# Altium schematic symbol library 74xx-eu.SCHLIB: 627 symbols (part 4 of 4)
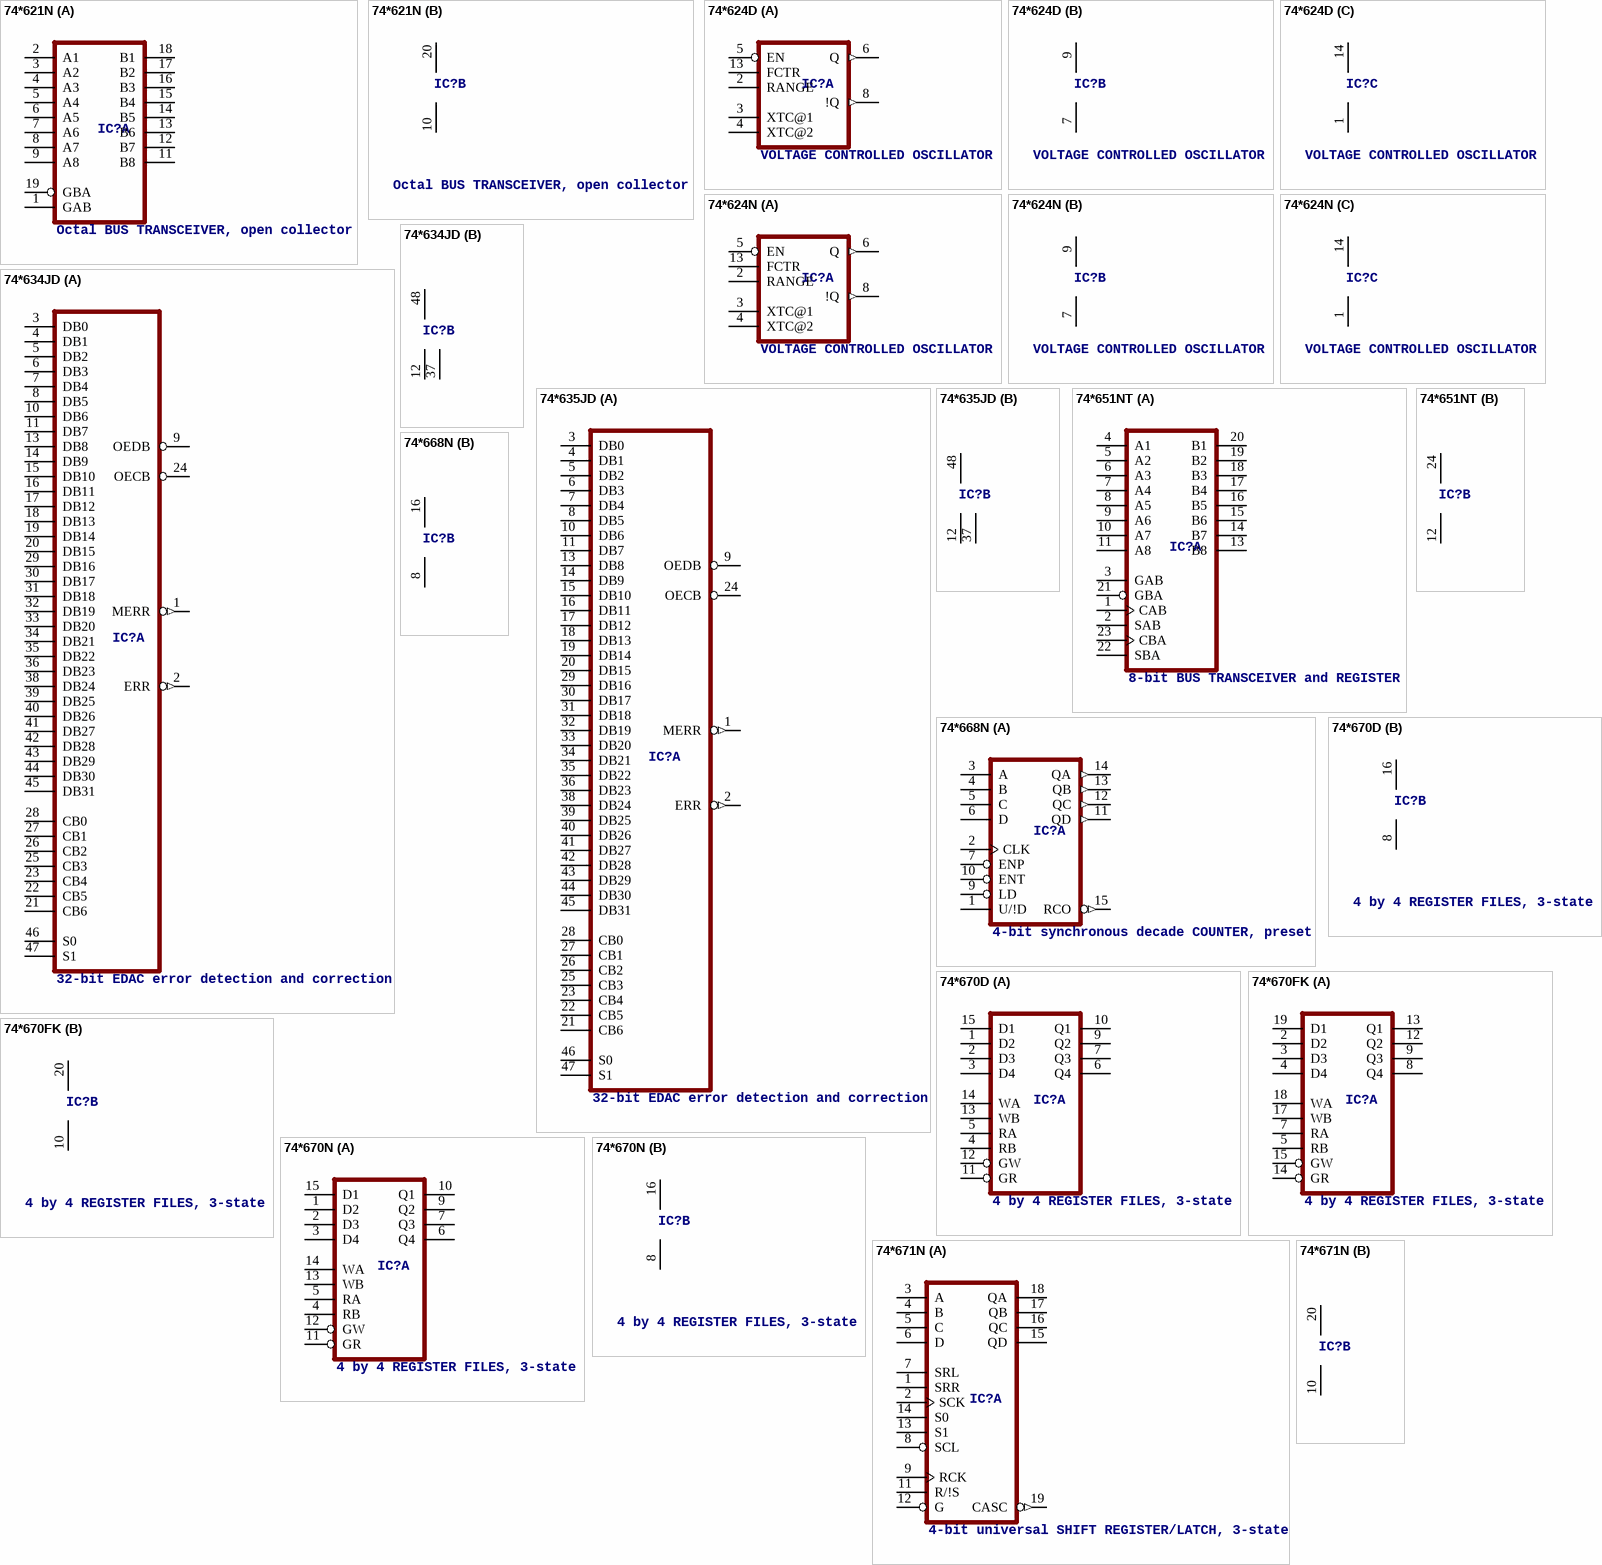
[diagram p58: symbols 74*621N to 74*671N]

## 74*668N
designator IC?, comment 4-bit synchronous decade COUNTER, preset
footprint DIL16
part A pins: 1 U/!D, 2 CLK, 3 A, 4 B, 5 C, 6 D, 7 ENP, 9 LD, 10 ENT, 11 QD (out), 12 QC (out), 13 QB (out), 14 QA (out), 15 RCO (out)
part B pins: 8 GND (power), 16 VCC (power)

## 74*670D
designator IC?, comment 4 by 4 REGISTER FILES, 3-state
footprint SO16
part A pins: 1 D2, 2 D3, 3 D4, 4 RB, 5 RA, 6 Q4 (hiz), 7 Q3 (hiz), 9 Q2 (hiz), 10 Q1 (hiz), 11 GR, 12 GW, 13 WB, 14 WA, 15 D1
part B pins: 8 GND (power), 16 VCC (power)

## 74*670FK
designator IC?, comment 4 by 4 REGISTER FILES, 3-state
footprint LCC20
part A pins: 2 D2, 3 D3, 4 D4, 5 RB, 7 RA, 8 Q4 (hiz), 9 Q3 (hiz), 12 Q2 (hiz), 13 Q1 (hiz), 14 GR, 15 GW, 17 WB, 18 WA, 19 D1
part B pins: 10 GND (power), 20 VCC (power)

## 74*670N
designator IC?, comment 4 by 4 REGISTER FILES, 3-state
footprint DIL16
part A pins: 1 D2, 2 D3, 3 D4, 4 RB, 5 RA, 6 Q4 (hiz), 7 Q3 (hiz), 9 Q2 (hiz), 10 Q1 (hiz), 11 GR, 12 GW, 13 WB, 14 WA, 15 D1
part B pins: 8 GND (power), 16 VCC (power)

## 74*671N
designator IC?, comment 4-bit universal SHIFT REGISTER/LATCH, 3-state
footprint DIL20
part A pins: 1 SRR, 2 SCK, 3 A, 4 B, 5 C, 6 D, 7 SRL, 8 SCL, 9 RCK, 11 R/!S, 12 G, 13 S1, 14 S0, 15 QD (hiz), 16 QC (hiz), 17 QB (hiz), 18 QA (hiz), 19 CASC (out)
part B pins: 10 GND (power), 20 VCC (power)

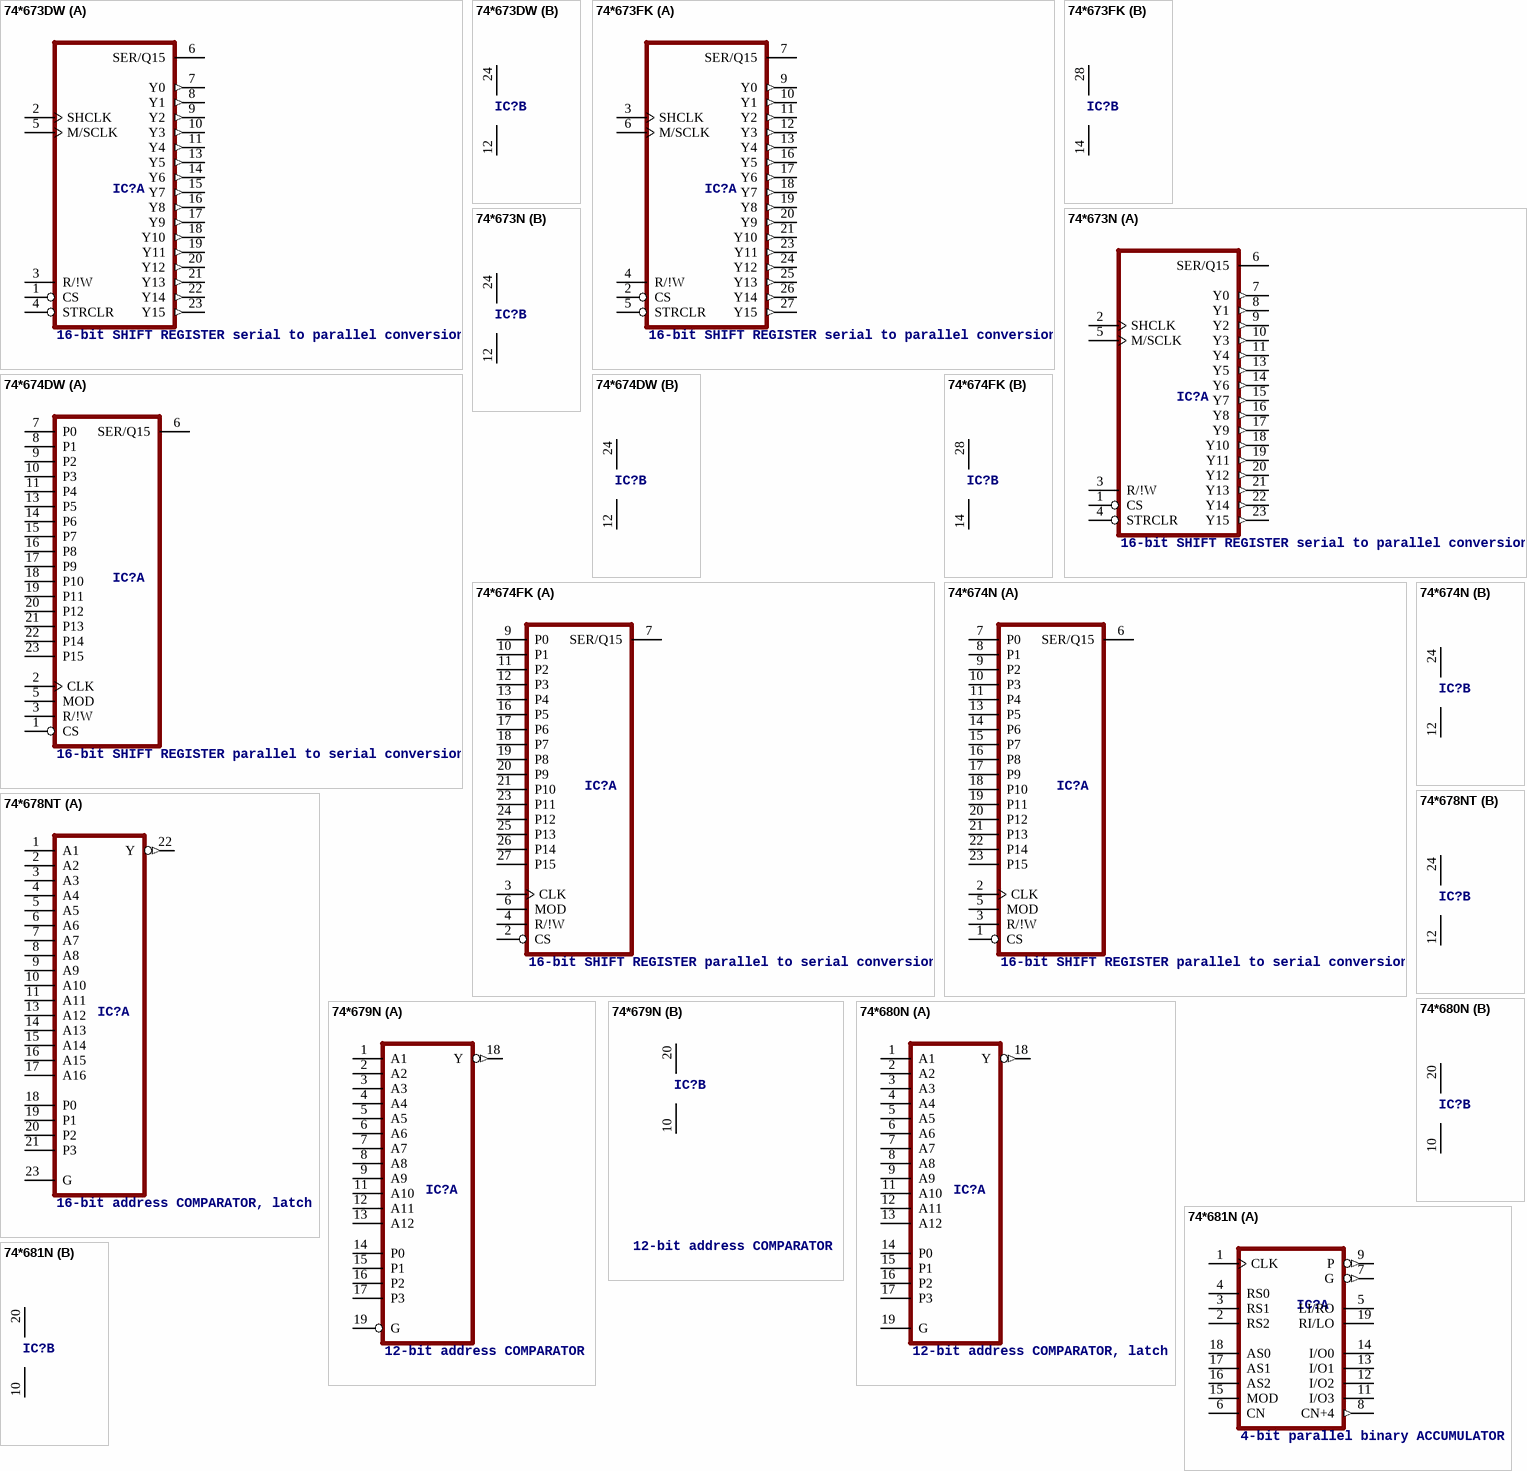
[diagram p48: symbols 74*673DW to 74*681N]

## 74*673DW
designator IC?, comment 16-bit SHIFT REGISTER serial to parallel conversion
footprint SO24W
part A pins: 1 CS, 2 SHCLK, 3 R/!W, 4 STRCLR, 5 M/SCLK, 6 SER/Q15, 7 Y0 (out), 8 Y1 (out), 9 Y2 (out), 10 Y3 (out), 11 Y4 (out), 13 Y5 (out), 14 Y6 (out), 15 Y7 (out), 16 Y8 (out), 17 Y9 (out), 18 Y10 (out), 19 Y11 (out), 20 Y12 (out), 21 Y13 (out), 22 Y14 (out), 23 Y15 (out)
part B pins: 12 GND (power), 24 VCC (power)

## 74*673FK
designator IC?, comment 16-bit SHIFT REGISTER serial to parallel conversion
footprint LCC28
part A pins: 2 CS, 3 SHCLK, 4 R/!W, 5 STRCLR, 6 M/SCLK, 7 SER/Q15, 9 Y0 (out), 10 Y1 (out), 11 Y2 (out), 12 Y3 (out), 13 Y4 (out), 16 Y5 (out), 17 Y6 (out), 18 Y7 (out), 19 Y8 (out), 20 Y9 (out), 21 Y10 (out), 23 Y11 (out), 24 Y12 (out), 25 Y13 (out), 26 Y14 (out), 27 Y15 (out)
part B pins: 14 GND (power), 28 VCC (power)

## 74*673N
designator IC?, comment 16-bit SHIFT REGISTER serial to parallel conversion
footprint DIL24-6
part A pins: 1 CS, 2 SHCLK, 3 R/!W, 4 STRCLR, 5 M/SCLK, 6 SER/Q15, 7 Y0 (out), 8 Y1 (out), 9 Y2 (out), 10 Y3 (out), 11 Y4 (out), 13 Y5 (out), 14 Y6 (out), 15 Y7 (out), 16 Y8 (out), 17 Y9 (out), 18 Y10 (out), 19 Y11 (out), 20 Y12 (out), 21 Y13 (out), 22 Y14 (out), 23 Y15 (out)
part B pins: 12 GND (power), 24 VCC (power)

## 74*674DW
designator IC?, comment 16-bit SHIFT REGISTER parallel to serial conversion
footprint SO24W
part A pins: 1 CS, 2 CLK, 3 R/!W, 5 MOD, 6 SER/Q15, 7 P0, 8 P1, 9 P2, 10 P3, 11 P4, 13 P5, 14 P6, 15 P7, 16 P8, 17 P9, 18 P10, 19 P11, 20 P12, 21 P13, 22 P14, 23 P15
part B pins: 12 GND (power), 24 VCC (power)

## 74*674FK
designator IC?, comment 16-bit SHIFT REGISTER parallel to serial conversion
footprint LCC28
part A pins: 2 CS, 3 CLK, 4 R/!W, 6 MOD, 7 SER/Q15, 9 P0, 10 P1, 11 P2, 12 P3, 13 P4, 16 P5, 17 P6, 18 P7, 19 P8, 20 P9, 21 P10, 23 P11, 24 P12, 25 P13, 26 P14, 27 P15
part B pins: 14 GND (power), 28 VCC (power)

## 74*674N
designator IC?, comment 16-bit SHIFT REGISTER parallel to serial conversion
footprint DIL24-6
part A pins: 1 CS, 2 CLK, 3 R/!W, 5 MOD, 6 SER/Q15, 7 P0, 8 P1, 9 P2, 10 P3, 11 P4, 13 P5, 14 P6, 15 P7, 16 P8, 17 P9, 18 P10, 19 P11, 20 P12, 21 P13, 22 P14, 23 P15
part B pins: 12 GND (power), 24 VCC (power)

## 74*678NT
designator IC?, comment 16-bit address COMPARATOR, latch
footprint DIL24-6
part A pins: 1 A1, 2 A2, 3 A3, 4 A4, 5 A5, 6 A6, 7 A7, 8 A8, 9 A9, 10 A10, 11 A11, 13 A12, 14 A13, 15 A14, 16 A15, 17 A16, 18 P0, 19 P1, 20 P2, 21 P3, 22 Y (out), 23 G
part B pins: 12 GND (power), 24 VCC (power)

## 74*679N
designator IC?, comment 12-bit address COMPARATOR
footprint DIL20
part A pins: 1 A1, 2 A2, 3 A3, 4 A4, 5 A5, 6 A6, 7 A7, 8 A8, 9 A9, 11 A10, 12 A11, 13 A12, 14 P0, 15 P1, 16 P2, 17 P3, 18 Y (out), 19 G
part B pins: 10 GND (power), 20 VCC (power)

## 74*680N
designator IC?, comment 12-bit address COMPARATOR, latch
footprint DIL20
part A pins: 1 A1, 2 A2, 3 A3, 4 A4, 5 A5, 6 A6, 7 A7, 8 A8, 9 A9, 11 A10, 12 A11, 13 A12, 14 P0, 15 P1, 16 P2, 17 P3, 18 Y (out), 19 G
part B pins: 10 GND (power), 20 VCC (power)

## 74*681N
designator IC?, comment 4-bit parallel binary ACCUMULATOR
footprint DIL20
part A pins: 1 CLK, 2 RS2, 3 RS1, 4 RS0, 5 LI/RO, 6 CN, 7 G (out), 8 CN+4 (out), 9 P (out), 11 I/O3, 12 I/O2, 13 I/O1, 14 I/O0, 15 MOD, 16 AS2, 17 AS1, 18 AS0, 19 RI/LO
part B pins: 10 GND (power), 20 VCC (power)

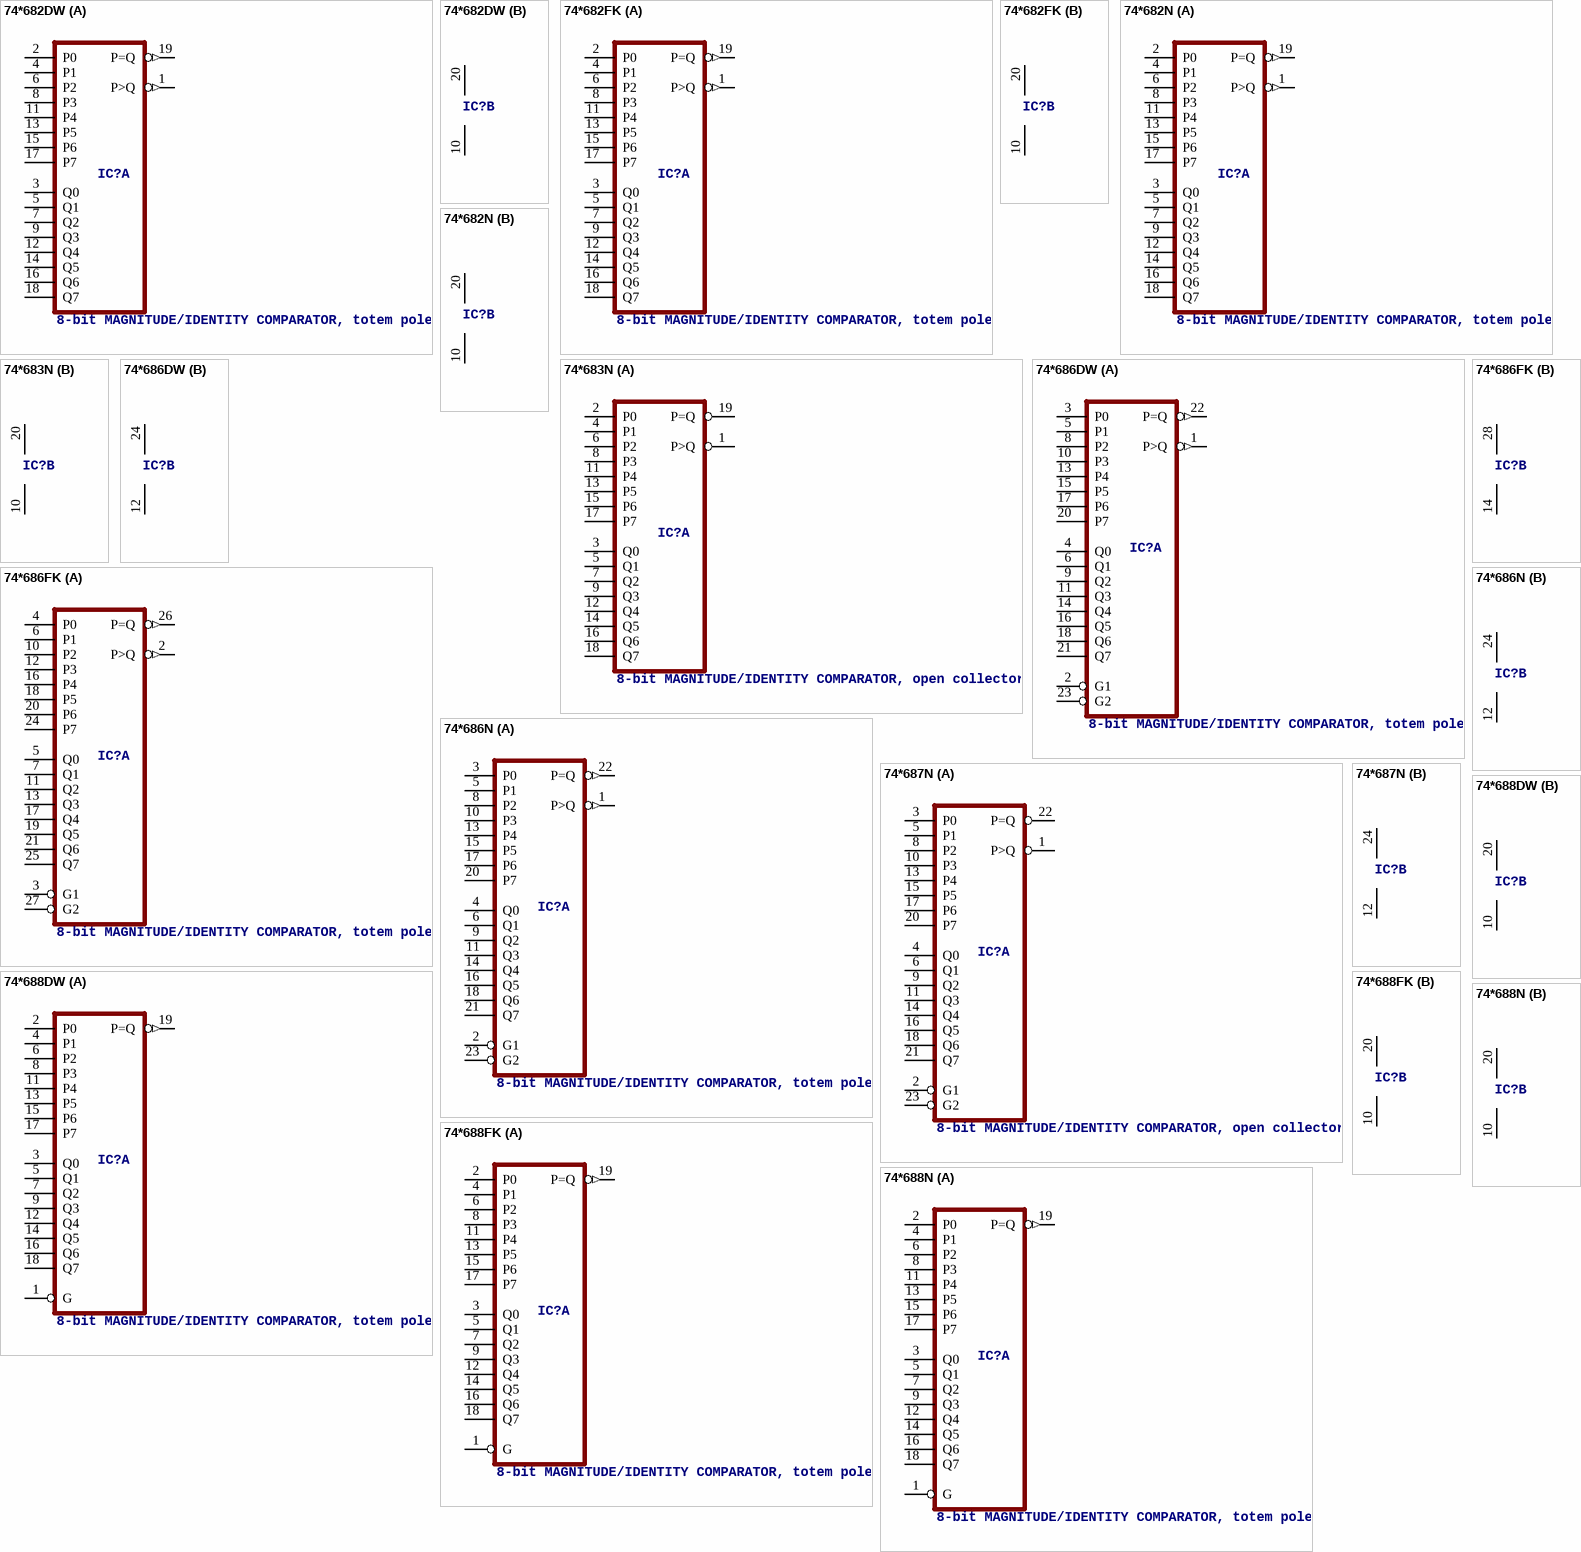
[diagram p49: symbols 74*682DW to 74*688N]

## 74*682DW
designator IC?, comment 8-bit MAGNITUDE/IDENTITY COMPARATOR, totem pole
footprint SO20W
part A pins: 1 P>Q (out), 2 P0, 3 Q0, 4 P1, 5 Q1, 6 P2, 7 Q2, 8 P3, 9 Q3, 11 P4, 12 Q4, 13 P5, 14 Q5, 15 P6, 16 Q6, 17 P7, 18 Q7, 19 P=Q (out)
part B pins: 10 GND (power), 20 VCC (power)

## 74*682FK
designator IC?, comment 8-bit MAGNITUDE/IDENTITY COMPARATOR, totem pole
footprint LCC20
part A pins: 1 P>Q (out), 2 P0, 3 Q0, 4 P1, 5 Q1, 6 P2, 7 Q2, 8 P3, 9 Q3, 11 P4, 12 Q4, 13 P5, 14 Q5, 15 P6, 16 Q6, 17 P7, 18 Q7, 19 P=Q (out)
part B pins: 10 GND (power), 20 VCC (power)

## 74*682N
designator IC?, comment 8-bit MAGNITUDE/IDENTITY COMPARATOR, totem pole
footprint DIL20
part A pins: 1 P>Q (out), 2 P0, 3 Q0, 4 P1, 5 Q1, 6 P2, 7 Q2, 8 P3, 9 Q3, 11 P4, 12 Q4, 13 P5, 14 Q5, 15 P6, 16 Q6, 17 P7, 18 Q7, 19 P=Q (out)
part B pins: 10 GND (power), 20 VCC (power)

## 74*683N
designator IC?, comment 8-bit MAGNITUDE/IDENTITY COMPARATOR, open collector
footprint DIL20
part A pins: 1 P>Q (oc), 2 P0, 3 Q0, 4 P1, 5 Q1, 6 P2, 7 Q2, 8 P3, 9 Q3, 11 P4, 12 Q4, 13 P5, 14 Q5, 15 P6, 16 Q6, 17 P7, 18 Q7, 19 P=Q (oc)
part B pins: 10 GND (power), 20 VCC (power)

## 74*686DW
designator IC?, comment 8-bit MAGNITUDE/IDENTITY COMPARATOR, totem pole
footprint SO24W
part A pins: 1 P>Q (out), 2 G1, 3 P0, 4 Q0, 5 P1, 6 Q1, 8 P2, 9 Q2, 10 P3, 11 Q3, 13 P4, 14 Q4, 15 P5, 16 Q5, 17 P6, 18 Q6, 20 P7, 21 Q7, 22 P=Q (out), 23 G2
part B pins: 12 GND (power), 24 VCC (power)

## 74*686FK
designator IC?, comment 8-bit MAGNITUDE/IDENTITY COMPARATOR, totem pole
footprint LCC28
part A pins: 2 P>Q (out), 3 G1, 4 P0, 5 Q0, 6 P1, 7 Q1, 10 P2, 11 Q2, 12 P3, 13 Q3, 16 P4, 17 Q4, 18 P5, 19 Q5, 20 P6, 21 Q6, 24 P7, 25 Q7, 26 P=Q (out), 27 G2
part B pins: 14 GND (power), 28 VCC (power)

## 74*686N
designator IC?, comment 8-bit MAGNITUDE/IDENTITY COMPARATOR, totem pole
footprint DIL24-6
part A pins: 1 P>Q (out), 2 G1, 3 P0, 4 Q0, 5 P1, 6 Q1, 8 P2, 9 Q2, 10 P3, 11 Q3, 13 P4, 14 Q4, 15 P5, 16 Q5, 17 P6, 18 Q6, 20 P7, 21 Q7, 22 P=Q (out), 23 G2
part B pins: 12 GND (power), 24 VCC (power)

## 74*687N
designator IC?, comment 8-bit MAGNITUDE/IDENTITY COMPARATOR, open collector
footprint DIL24-6
part A pins: 1 P>Q (oc), 2 G1, 3 P0, 4 Q0, 5 P1, 6 Q1, 8 P2, 9 Q2, 10 P3, 11 Q3, 13 P4, 14 Q4, 15 P5, 16 Q5, 17 P6, 18 Q6, 20 P7, 21 Q7, 22 P=Q (oc), 23 G2
part B pins: 12 GND (power), 24 VCC (power)

## 74*688DW
designator IC?, comment 8-bit MAGNITUDE/IDENTITY COMPARATOR, totem pole
footprint SO20W
part A pins: 1 G, 2 P0, 3 Q0, 4 P1, 5 Q1, 6 P2, 7 Q2, 8 P3, 9 Q3, 11 P4, 12 Q4, 13 P5, 14 Q5, 15 P6, 16 Q6, 17 P7, 18 Q7, 19 P=Q (out)
part B pins: 10 GND (power), 20 VCC (power)

## 74*688FK
designator IC?, comment 8-bit MAGNITUDE/IDENTITY COMPARATOR, totem pole
footprint LCC20
part A pins: 1 G, 2 P0, 3 Q0, 4 P1, 5 Q1, 6 P2, 7 Q2, 8 P3, 9 Q3, 11 P4, 12 Q4, 13 P5, 14 Q5, 15 P6, 16 Q6, 17 P7, 18 Q7, 19 P=Q (out)
part B pins: 10 GND (power), 20 VCC (power)

## 74*688N
designator IC?, comment 8-bit MAGNITUDE/IDENTITY COMPARATOR, totem pole
footprint DIL20
part A pins: 1 G, 2 P0, 3 Q0, 4 P1, 5 Q1, 6 P2, 7 Q2, 8 P3, 9 Q3, 11 P4, 12 Q4, 13 P5, 14 Q5, 15 P6, 16 Q6, 17 P7, 18 Q7, 19 P=Q (out)
part B pins: 10 GND (power), 20 VCC (power)

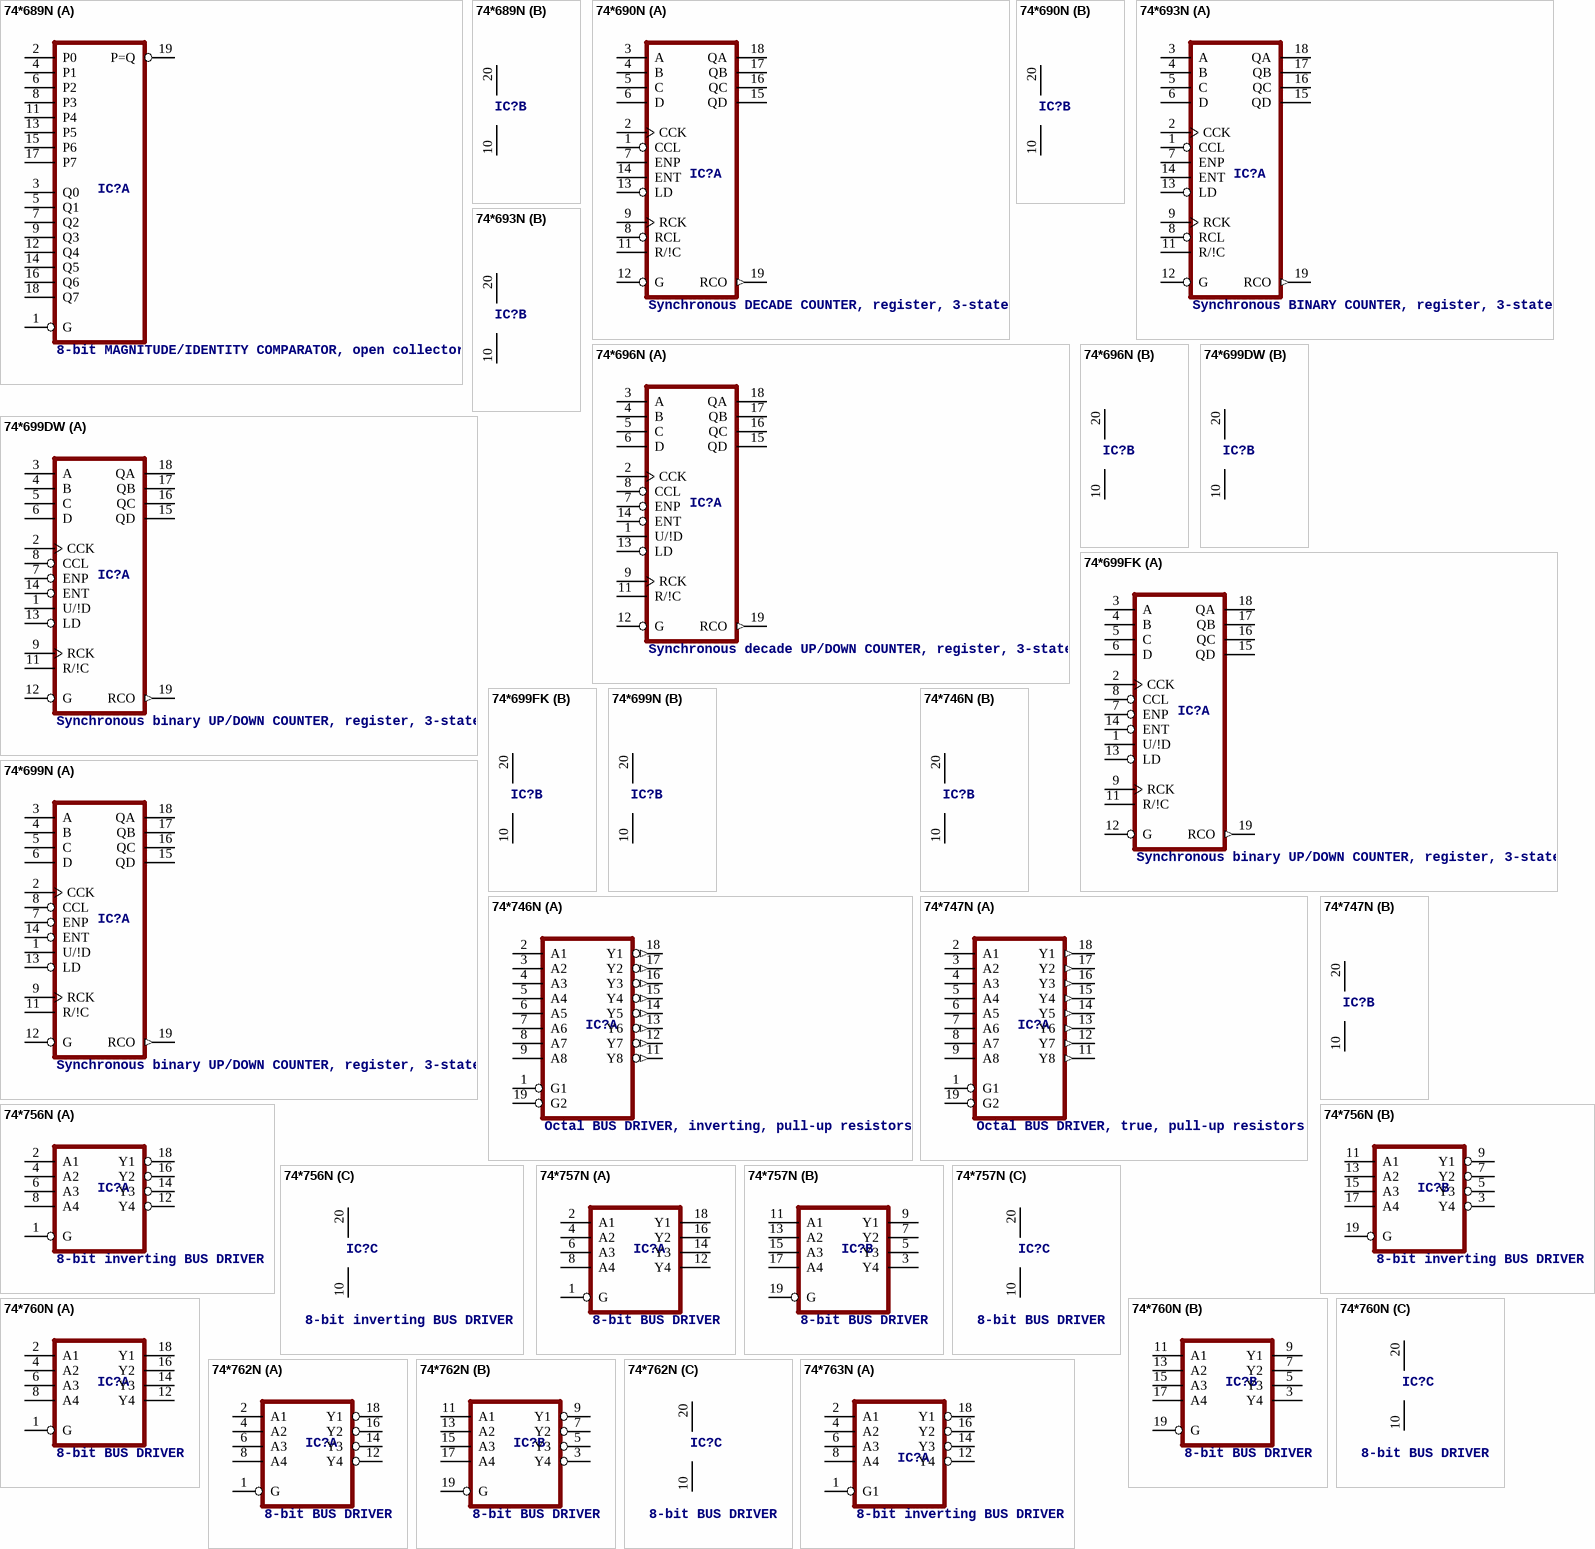
[diagram p50: symbols 74*689N to 74*763N]

## 74*689N
designator IC?, comment 8-bit MAGNITUDE/IDENTITY COMPARATOR, open collector
footprint DIL20
part A pins: 1 G, 2 P0, 3 Q0, 4 P1, 5 Q1, 6 P2, 7 Q2, 8 P3, 9 Q3, 11 P4, 12 Q4, 13 P5, 14 Q5, 15 P6, 16 Q6, 17 P7, 18 Q7, 19 P=Q (oc)
part B pins: 10 GND (power), 20 VCC (power)

## 74*690N
designator IC?, comment Synchronous DECADE COUNTER, register, 3-state
footprint DIL20
part A pins: 1 CCL, 2 CCK, 3 A, 4 B, 5 C, 6 D, 7 ENP, 8 RCL, 9 RCK, 11 R/!C, 12 G, 13 LD, 14 ENT, 15 QD (hiz), 16 QC (hiz), 17 QB (hiz), 18 QA (hiz), 19 RCO (out)
part B pins: 10 GND (power), 20 VCC (power)

## 74*693N
designator IC?, comment Synchronous BINARY COUNTER, register, 3-state
footprint DIL20
part A pins: 1 CCL, 2 CCK, 3 A, 4 B, 5 C, 6 D, 7 ENP, 8 RCL, 9 RCK, 11 R/!C, 12 G, 13 LD, 14 ENT, 15 QD (hiz), 16 QC (hiz), 17 QB (hiz), 18 QA (hiz), 19 RCO (out)
part B pins: 10 GND (power), 20 VCC (power)

## 74*696N
designator IC?, comment Synchronous decade UP/DOWN COUNTER, register, 3-state
footprint DIL20
part A pins: 1 U/!D, 2 CCK, 3 A, 4 B, 5 C, 6 D, 7 ENP, 8 CCL, 9 RCK, 11 R/!C, 12 G, 13 LD, 14 ENT, 15 QD (hiz), 16 QC (hiz), 17 QB (hiz), 18 QA (hiz), 19 RCO (out)
part B pins: 10 GND (power), 20 VCC (power)

## 74*699DW
designator IC?, comment Synchronous binary UP/DOWN COUNTER, register, 3-state
footprint SO20W
part A pins: 1 U/!D, 2 CCK, 3 A, 4 B, 5 C, 6 D, 7 ENP, 8 CCL, 9 RCK, 11 R/!C, 12 G, 13 LD, 14 ENT, 15 QD (hiz), 16 QC (hiz), 17 QB (hiz), 18 QA (hiz), 19 RCO (out)
part B pins: 10 GND (power), 20 VCC (power)

## 74*699FK
designator IC?, comment Synchronous binary UP/DOWN COUNTER, register, 3-state
footprint LCC20
part A pins: 1 U/!D, 2 CCK, 3 A, 4 B, 5 C, 6 D, 7 ENP, 8 CCL, 9 RCK, 11 R/!C, 12 G, 13 LD, 14 ENT, 15 QD (hiz), 16 QC (hiz), 17 QB (hiz), 18 QA (hiz), 19 RCO (out)
part B pins: 10 GND (power), 20 VCC (power)

## 74*699N
designator IC?, comment Synchronous binary UP/DOWN COUNTER, register, 3-state
footprint DIL20
part A pins: 1 U/!D, 2 CCK, 3 A, 4 B, 5 C, 6 D, 7 ENP, 8 CCL, 9 RCK, 11 R/!C, 12 G, 13 LD, 14 ENT, 15 QD (hiz), 16 QC (hiz), 17 QB (hiz), 18 QA (hiz), 19 RCO (out)
part B pins: 10 GND (power), 20 VCC (power)

## 74*746N
designator IC?, comment Octal BUS DRIVER, inverting, pull-up resistors
footprint DIL20
part A pins: 1 G1, 2 A1, 3 A2, 4 A3, 5 A4, 6 A5, 7 A6, 8 A7, 9 A8, 11 Y8 (out), 12 Y7 (out), 13 Y6 (out), 14 Y5 (out), 15 Y4 (out), 16 Y3 (out), 17 Y2 (out), 18 Y1 (out), 19 G2
part B pins: 10 GND (power), 20 VCC (power)

## 74*747N
designator IC?, comment Octal BUS DRIVER, true, pull-up resistors
footprint DIL20
part A pins: 1 G1, 2 A1, 3 A2, 4 A3, 5 A4, 6 A5, 7 A6, 8 A7, 9 A8, 11 Y8 (out), 12 Y7 (out), 13 Y6 (out), 14 Y5 (out), 15 Y4 (out), 16 Y3 (out), 17 Y2 (out), 18 Y1 (out), 19 G2
part B pins: 10 GND (power), 20 VCC (power)

## 74*756N
designator IC?, comment 8-bit inverting BUS DRIVER
footprint DIL20
part A pins: 1 G, 2 A1, 4 A2, 6 A3, 8 A4, 12 Y4 (oc), 14 Y3 (oc), 16 Y2 (oc), 18 Y1 (oc)
part B pins: 3 Y4 (oc), 5 Y3 (oc), 7 Y2 (oc), 9 Y1 (oc), 11 A1, 13 A2, 15 A3, 17 A4, 19 G
part C pins: 10 GND (power), 20 VCC (power)

## 74*757N
designator IC?, comment 8-bit BUS DRIVER
footprint DIL20
part A pins: 1 G, 2 A1, 4 A2, 6 A3, 8 A4, 12 Y4 (oc), 14 Y3 (oc), 16 Y2 (oc), 18 Y1 (oc)
part B pins: 3 Y4 (oc), 5 Y3 (oc), 7 Y2 (oc), 9 Y1 (oc), 11 A1, 13 A2, 15 A3, 17 A4, 19 G
part C pins: 10 GND (power), 20 VCC (power)

## 74*760N
designator IC?, comment 8-bit BUS DRIVER
footprint DIL20
part A pins: 1 G, 2 A1, 4 A2, 6 A3, 8 A4, 12 Y4 (oc), 14 Y3 (oc), 16 Y2 (oc), 18 Y1 (oc)
part B pins: 3 Y4 (oc), 5 Y3 (oc), 7 Y2 (oc), 9 Y1 (oc), 11 A1, 13 A2, 15 A3, 17 A4, 19 G
part C pins: 10 GND (power), 20 VCC (power)

## 74*762N
designator IC?, comment 8-bit BUS DRIVER
footprint DIL20
part A pins: 1 G, 2 A1, 4 A2, 6 A3, 8 A4, 12 Y4 (oc), 14 Y3 (oc), 16 Y2 (oc), 18 Y1 (oc)
part B pins: 3 Y4 (oc), 5 Y3 (oc), 7 Y2 (oc), 9 Y1 (oc), 11 A1, 13 A2, 15 A3, 17 A4, 19 G
part C pins: 10 GND (power), 20 VCC (power)

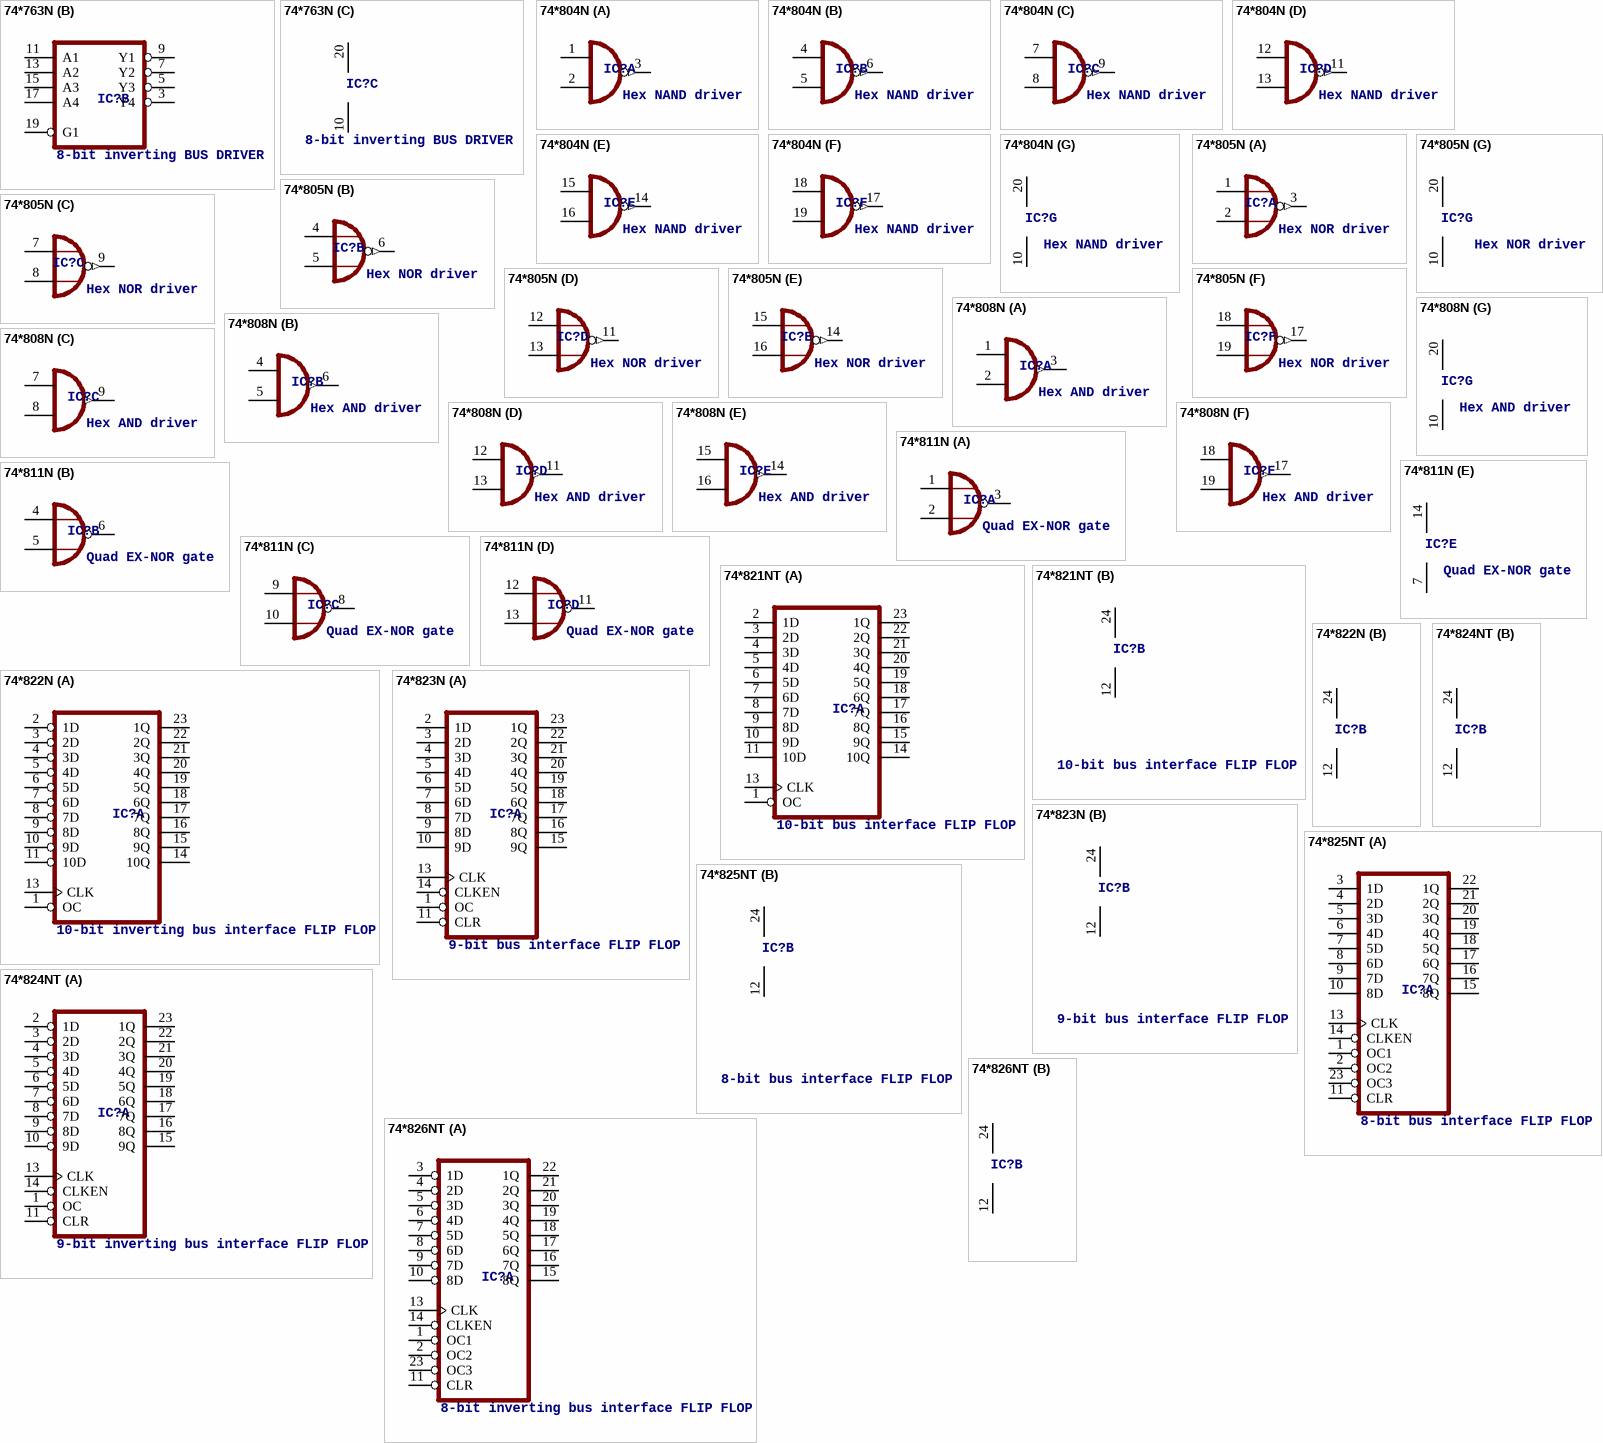
[diagram p51: symbols 74*763N to 74*826NT]

## 74*763N
designator IC?, comment 8-bit inverting BUS DRIVER
footprint DIL20
part A pins: 1 G1, 2 A1, 4 A2, 6 A3, 8 A4, 12 Y4 (oc), 14 Y3 (oc), 16 Y2 (oc), 18 Y1 (oc)
part B pins: 3 Y4 (oc), 5 Y3 (oc), 7 Y2 (oc), 9 Y1 (oc), 11 A1, 13 A2, 15 A3, 17 A4, 19 G1
part C pins: 10 GND (power), 20 VCC (power)

## 74*804N
designator IC?, comment Hex NAND driver
footprint DIL20
part A pins: 1 I0, 2 I1, 3 O (out)
part B pins: 4 I0, 5 I1, 6 O (out)
part C pins: 7 I0, 8 I1, 9 O (out)
part D pins: 11 O (out), 12 I0, 13 I1
part E pins: 14 O (out), 15 I0, 16 I1
part F pins: 17 O (out), 18 I0, 19 I1
part G pins: 10 GND (power), 20 VCC (power)

## 74*805N
designator IC?, comment Hex NOR driver
footprint DIL20
part A pins: 1 I0, 2 I1, 3 O (out)
part B pins: 4 I0, 5 I1, 6 O (out)
part C pins: 7 I0, 8 I1, 9 O (out)
part D pins: 11 O (out), 12 I0, 13 I1
part E pins: 14 O (out), 15 I0, 16 I1
part F pins: 17 O (out), 18 I0, 19 I1
part G pins: 10 GND (power), 20 VCC (power)

## 74*808N
designator IC?, comment Hex AND driver
footprint DIL20
part A pins: 1 I0, 2 I1, 3 O (out)
part B pins: 4 I0, 5 I1, 6 O (out)
part C pins: 7 I0, 8 I1, 9 O (out)
part D pins: 11 O (out), 12 I0, 13 I1
part E pins: 14 O (out), 15 I0, 16 I1
part F pins: 17 O (out), 18 I0, 19 I1
part G pins: 10 GND (power), 20 VCC (power)

## 74*811N
designator IC?, comment Quad EX-NOR gate
footprint DIL14
part A pins: 1 I0, 2 I1, 3 O (oc)
part B pins: 4 I0, 5 I1, 6 O (oc)
part C pins: 8 O (oc), 9 I0, 10 I1
part D pins: 11 O (oc), 12 I0, 13 I1
part E pins: 7 GND (power), 14 VCC (power)

## 74*821NT
designator IC?, comment 10-bit bus interface FLIP FLOP
footprint DIL24-6
part A pins: 1 OC, 2 1D, 3 2D, 4 3D, 5 4D, 6 5D, 7 6D, 8 7D, 9 8D, 10 9D, 11 10D, 13 CLK, 14 10Q (hiz), 15 9Q (hiz), 16 8Q (hiz), 17 7Q (hiz), 18 6Q (hiz), 19 5Q (hiz), 20 4Q (hiz), 21 3Q (hiz), 22 2Q (hiz), 23 1Q (hiz)
part B pins: 12 GND (power), 24 VCC (power)

## 74*822N
designator IC?, comment 10-bit inverting bus interface FLIP FLOP
footprint DIL24-6
part A pins: 1 OC, 2 1D, 3 2D, 4 3D, 5 4D, 6 5D, 7 6D, 8 7D, 9 8D, 10 9D, 11 10D, 13 CLK, 14 10Q (hiz), 15 9Q (hiz), 16 8Q (hiz), 17 7Q (hiz), 18 6Q (hiz), 19 5Q (hiz), 20 4Q (hiz), 21 3Q (hiz), 22 2Q (hiz), 23 1Q (hiz)
part B pins: 12 GND (power), 24 VCC (power)

## 74*823N
designator IC?, comment 9-bit bus interface FLIP FLOP
footprint DIL24-6
part A pins: 1 OC, 2 1D, 3 2D, 4 3D, 5 4D, 6 5D, 7 6D, 8 7D, 9 8D, 10 9D, 11 CLR, 13 CLK, 14 CLKEN, 15 9Q (hiz), 16 8Q (hiz), 17 7Q (hiz), 18 6Q (hiz), 19 5Q (hiz), 20 4Q (hiz), 21 3Q (hiz), 22 2Q (hiz), 23 1Q (hiz)
part B pins: 12 GND (power), 24 VCC (power)

## 74*824NT
designator IC?, comment 9-bit inverting bus interface FLIP FLOP
footprint DIL24-6
part A pins: 1 OC, 2 1D, 3 2D, 4 3D, 5 4D, 6 5D, 7 6D, 8 7D, 9 8D, 10 9D, 11 CLR, 13 CLK, 14 CLKEN, 15 9Q (hiz), 16 8Q (hiz), 17 7Q (hiz), 18 6Q (hiz), 19 5Q (hiz), 20 4Q (hiz), 21 3Q (hiz), 22 2Q (hiz), 23 1Q (hiz)
part B pins: 12 GND (power), 24 VCC (power)

## 74*825NT
designator IC?, comment 8-bit bus interface FLIP FLOP
footprint DIL24-6
part A pins: 1 OC1, 2 OC2, 3 1D, 4 2D, 5 3D, 6 4D, 7 5D, 8 6D, 9 7D, 10 8D, 11 CLR, 13 CLK, 14 CLKEN, 15 8Q (hiz), 16 7Q (hiz), 17 6Q (hiz), 18 5Q (hiz), 19 4Q (hiz), 20 3Q (hiz), 21 2Q (hiz), 22 1Q (hiz), 23 OC3
part B pins: 12 GND (power), 24 VCC (power)

## 74*826NT
designator IC?, comment 8-bit inverting bus interface FLIP FLOP
footprint DIL24-6
part A pins: 1 OC1, 2 OC2, 3 1D, 4 2D, 5 3D, 6 4D, 7 5D, 8 6D, 9 7D, 10 8D, 11 CLR, 13 CLK, 14 CLKEN, 15 8Q (hiz), 16 7Q (hiz), 17 6Q (hiz), 18 5Q (hiz), 19 4Q (hiz), 20 3Q (hiz), 21 2Q (hiz), 22 1Q (hiz), 23 OC3
part B pins: 12 GND (power), 24 VCC (power)

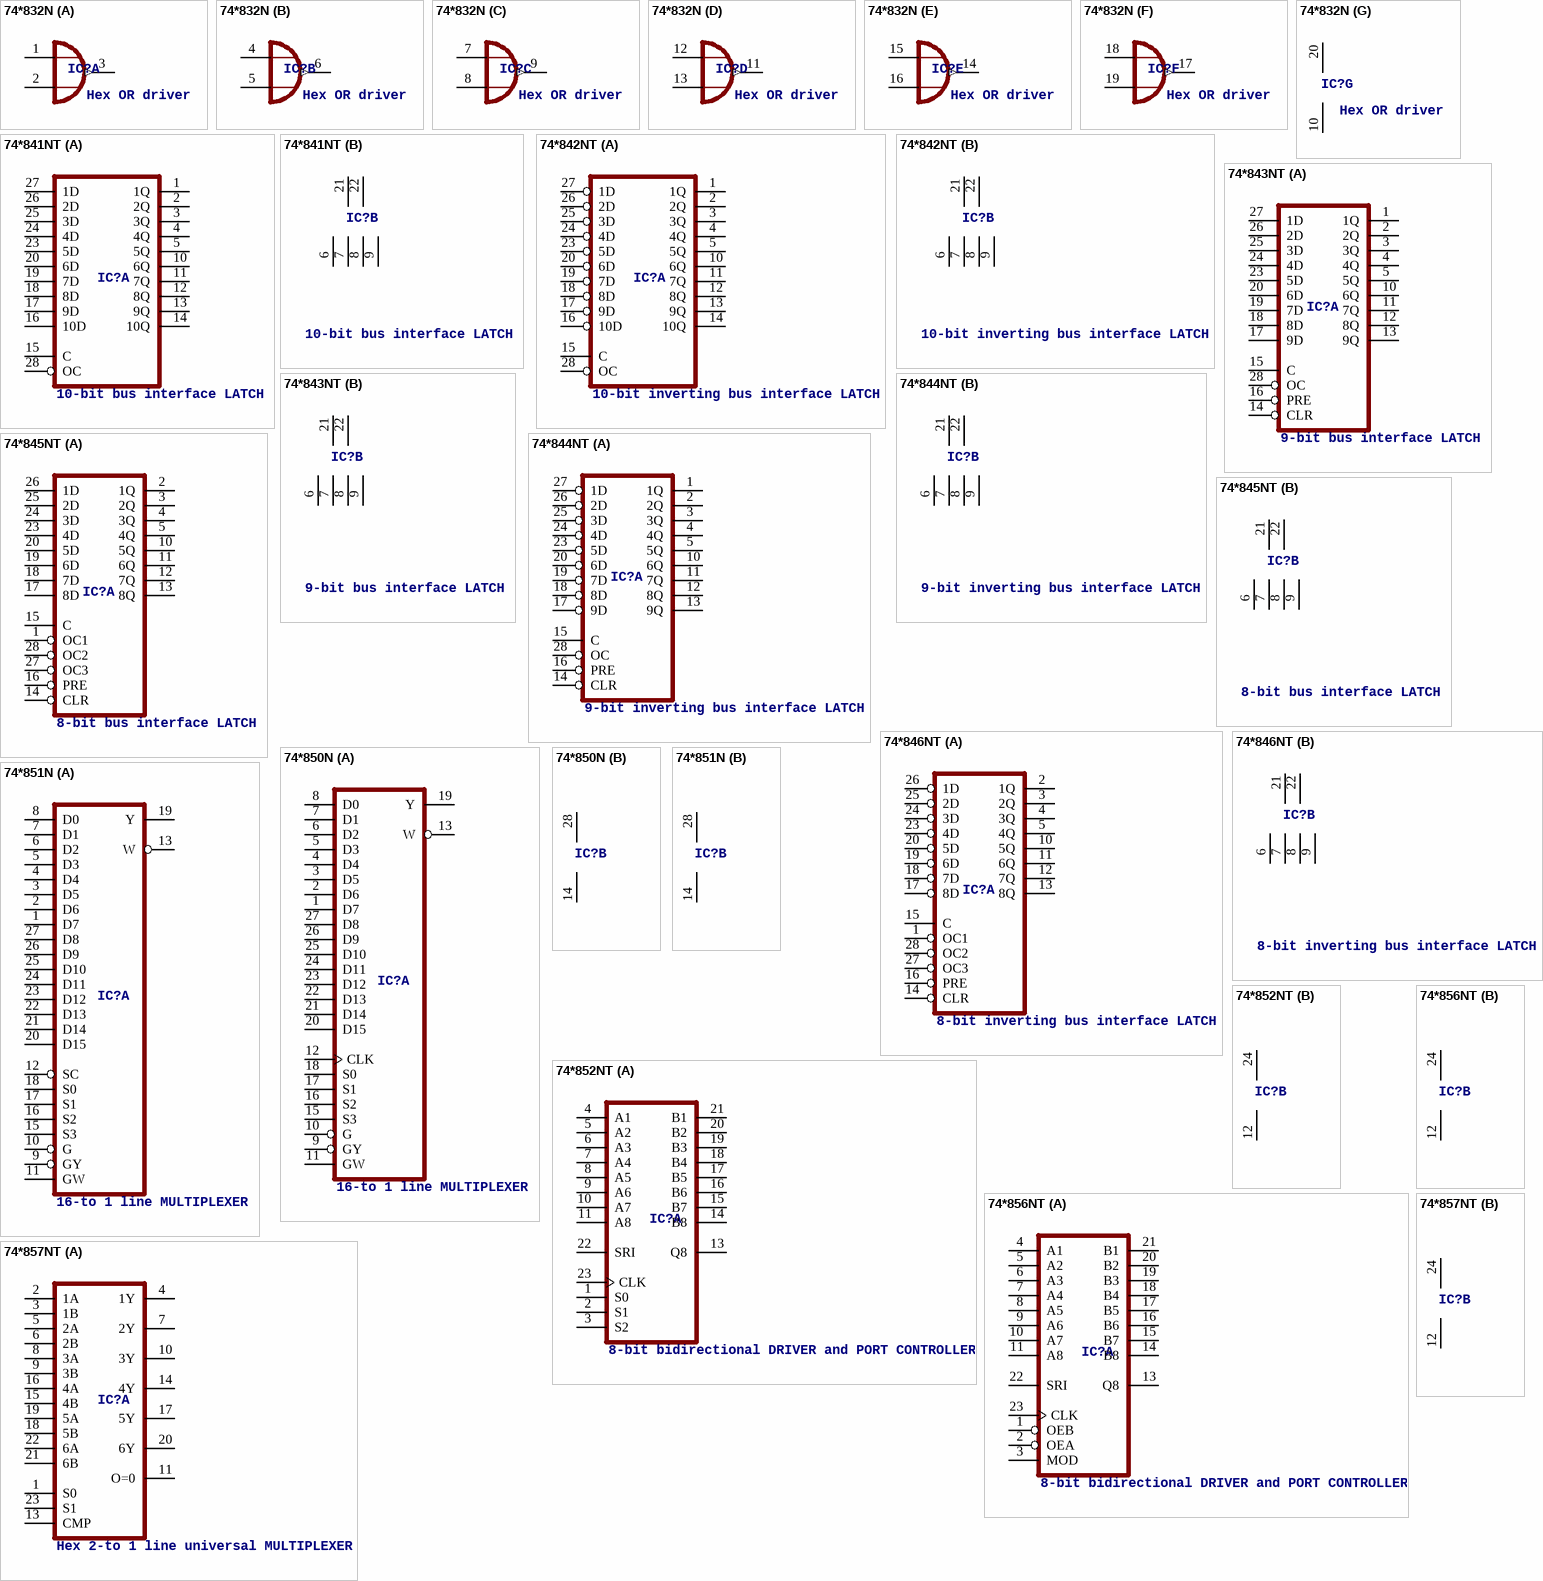
[diagram p52: symbols 74*832N to 74*857NT]

## 74*832N
designator IC?, comment Hex OR driver
footprint DIL20
part A pins: 1 I0, 2 I1, 3 O (out)
part B pins: 4 I0, 5 I1, 6 O (out)
part C pins: 7 I0, 8 I1, 9 O (out)
part D pins: 11 O (out), 12 I0, 13 I1
part E pins: 14 O (out), 15 I0, 16 I1
part F pins: 17 O (out), 18 I0, 19 I1
part G pins: 10 GND (power), 20 VCC (power)

## 74*841NT
designator IC?, comment 10-bit bus interface LATCH
footprint DIL28-6
part A pins: 1 1Q (hiz), 2 2Q (hiz), 3 3Q (hiz), 4 4Q (hiz), 5 5Q (hiz), 10 6Q (hiz), 11 7Q (hiz), 12 8Q (hiz), 13 9Q (hiz), 14 10Q (hiz), 15 C, 16 10D, 17 9D, 18 8D, 19 7D, 20 6D, 23 5D, 24 4D, 25 3D, 26 2D, 27 1D, 28 OC
part B pins: 6 GND@1 (power), 7 GND@2 (power), 8 GND@3 (power), 9 GND@4 (power), 21 VCC@1 (power), 22 VCC@2 (power)

## 74*842NT
designator IC?, comment 10-bit inverting bus interface LATCH
footprint DIL28-6
part A pins: 1 1Q (hiz), 2 2Q (hiz), 3 3Q (hiz), 4 4Q (hiz), 5 5Q (hiz), 10 6Q (hiz), 11 7Q (hiz), 12 8Q (hiz), 13 9Q (hiz), 14 10Q (hiz), 15 C, 16 10D, 17 9D, 18 8D, 19 7D, 20 6D, 23 5D, 24 4D, 25 3D, 26 2D, 27 1D, 28 OC
part B pins: 6 GND@1 (power), 7 GND@2 (power), 8 GND@3 (power), 9 GND@4 (power), 21 VCC@1 (power), 22 VCC@2 (power)

## 74*843NT
designator IC?, comment 9-bit bus interface LATCH
footprint DIL28-6
part A pins: 1 1Q (hiz), 2 2Q (hiz), 3 3Q (hiz), 4 4Q (hiz), 5 5Q (hiz), 10 6Q (hiz), 11 7Q (hiz), 12 8Q (hiz), 13 9Q (hiz), 14 CLR, 15 C, 16 PRE, 17 9D, 18 8D, 19 7D, 20 6D, 23 5D, 24 4D, 25 3D, 26 2D, 27 1D, 28 OC
part B pins: 6 GND@1 (power), 7 GND@2 (power), 8 GND@3 (power), 9 GND@4 (power), 21 VCC@1 (power), 22 VCC@2 (power)

## 74*844NT
designator IC?, comment 9-bit inverting bus interface LATCH
footprint DIL28-6
part A pins: 1 1Q (hiz), 2 2Q (hiz), 3 3Q (hiz), 4 4Q (hiz), 5 5Q (hiz), 10 6Q (hiz), 11 7Q (hiz), 12 8Q (hiz), 13 9Q (hiz), 14 CLR, 15 C, 16 PRE, 17 9D, 18 8D, 19 7D, 20 6D, 23 5D, 24 4D, 25 3D, 26 2D, 27 1D, 28 OC
part B pins: 6 GND@1 (power), 7 GND@2 (power), 8 GND@3 (power), 9 GND@4 (power), 21 VCC@1 (power), 22 VCC@2 (power)

## 74*845NT
designator IC?, comment 8-bit bus interface LATCH
footprint DIL28-6
part A pins: 1 OC1, 2 1Q (hiz), 3 2Q (hiz), 4 3Q (hiz), 5 4Q (hiz), 10 5Q (hiz), 11 6Q (hiz), 12 7Q (hiz), 13 8Q (hiz), 14 CLR, 15 C, 16 PRE, 17 8D, 18 7D, 19 6D, 20 5D, 23 4D, 24 3D, 25 2D, 26 1D, 27 OC3, 28 OC2
part B pins: 6 GND@1 (power), 7 GND@2 (power), 8 GND@3 (power), 9 GND@4 (power), 21 VCC@1 (power), 22 VCC@2 (power)

## 74*846NT
designator IC?, comment 8-bit inverting bus interface LATCH
footprint DIL28-6
part A pins: 1 OC1, 2 1Q (hiz), 3 2Q (hiz), 4 3Q (hiz), 5 4Q (hiz), 10 5Q (hiz), 11 6Q (hiz), 12 7Q (hiz), 13 8Q (hiz), 14 CLR, 15 C, 16 PRE, 17 8D, 18 7D, 19 6D, 20 5D, 23 4D, 24 3D, 25 2D, 26 1D, 27 OC3, 28 OC2
part B pins: 6 GND@1 (power), 7 GND@2 (power), 8 GND@3 (power), 9 GND@4 (power), 21 VCC@1 (power), 22 VCC@2 (power)

## 74*850N
designator IC?, comment 16-to 1 line MULTIPLEXER
footprint DIL28-6
part A pins: 1 D7, 2 D6, 3 D5, 4 D4, 5 D3, 6 D2, 7 D1, 8 D0, 9 GY, 10 G, 11 GW, 12 CLK, 13 W (hiz), 15 S3, 16 S2, 17 S1, 18 S0, 19 Y (hiz), 20 D15, 21 D14, 22 D13, 23 D12, 24 D11, 25 D10, 26 D9, 27 D8
part B pins: 14 GND (power), 28 VCC (power)

## 74*851N
designator IC?, comment 16-to 1 line MULTIPLEXER
footprint DIL28-6
part A pins: 1 D7, 2 D6, 3 D5, 4 D4, 5 D3, 6 D2, 7 D1, 8 D0, 9 GY, 10 G, 11 GW, 12 SC, 13 W (hiz), 15 S3, 16 S2, 17 S1, 18 S0, 19 Y (hiz), 20 D15, 21 D14, 22 D13, 23 D12, 24 D11, 25 D10, 26 D9, 27 D8
part B pins: 14 GND (power), 28 VCC (power)

## 74*852NT
designator IC?, comment 8-bit bidirectional DRIVER and PORT CONTROLLER
footprint DIL24-6
part A pins: 1 S0, 2 S1, 3 S2, 4 A1, 5 A2, 6 A3, 7 A4, 8 A5, 9 A6, 10 A7, 11 A8, 13 Q8 (hiz), 14 B8, 15 B7, 16 B6, 17 B5, 18 B4, 19 B3, 20 B2, 21 B1, 22 SRI, 23 CLK
part B pins: 12 GND (power), 24 VCC (power)

## 74*856NT
designator IC?, comment 8-bit bidirectional DRIVER and PORT CONTROLLER
footprint DIL24-6
part A pins: 1 OEB, 2 OEA, 3 MOD, 4 A1, 5 A2, 6 A3, 7 A4, 8 A5, 9 A6, 10 A7, 11 A8, 13 Q8 (hiz), 14 B8, 15 B7, 16 B6, 17 B5, 18 B4, 19 B3, 20 B2, 21 B1, 22 SRI, 23 CLK
part B pins: 12 GND (power), 24 VCC (power)

## 74*857NT
designator IC?, comment Hex 2-to 1 line universal MULTIPLEXER
footprint DIL24-6
part A pins: 1 S0, 2 1A, 3 1B, 4 1Y (hiz), 5 2A, 6 2B, 7 2Y (hiz), 8 3A, 9 3B, 10 3Y (hiz), 11 O=0 (hiz), 13 CMP, 14 4Y (hiz), 15 4B, 16 4A, 17 5Y (hiz), 18 5B, 19 5A, 20 6Y (hiz), 21 6B, 22 6A, 23 S1
part B pins: 12 GND (power), 24 VCC (power)

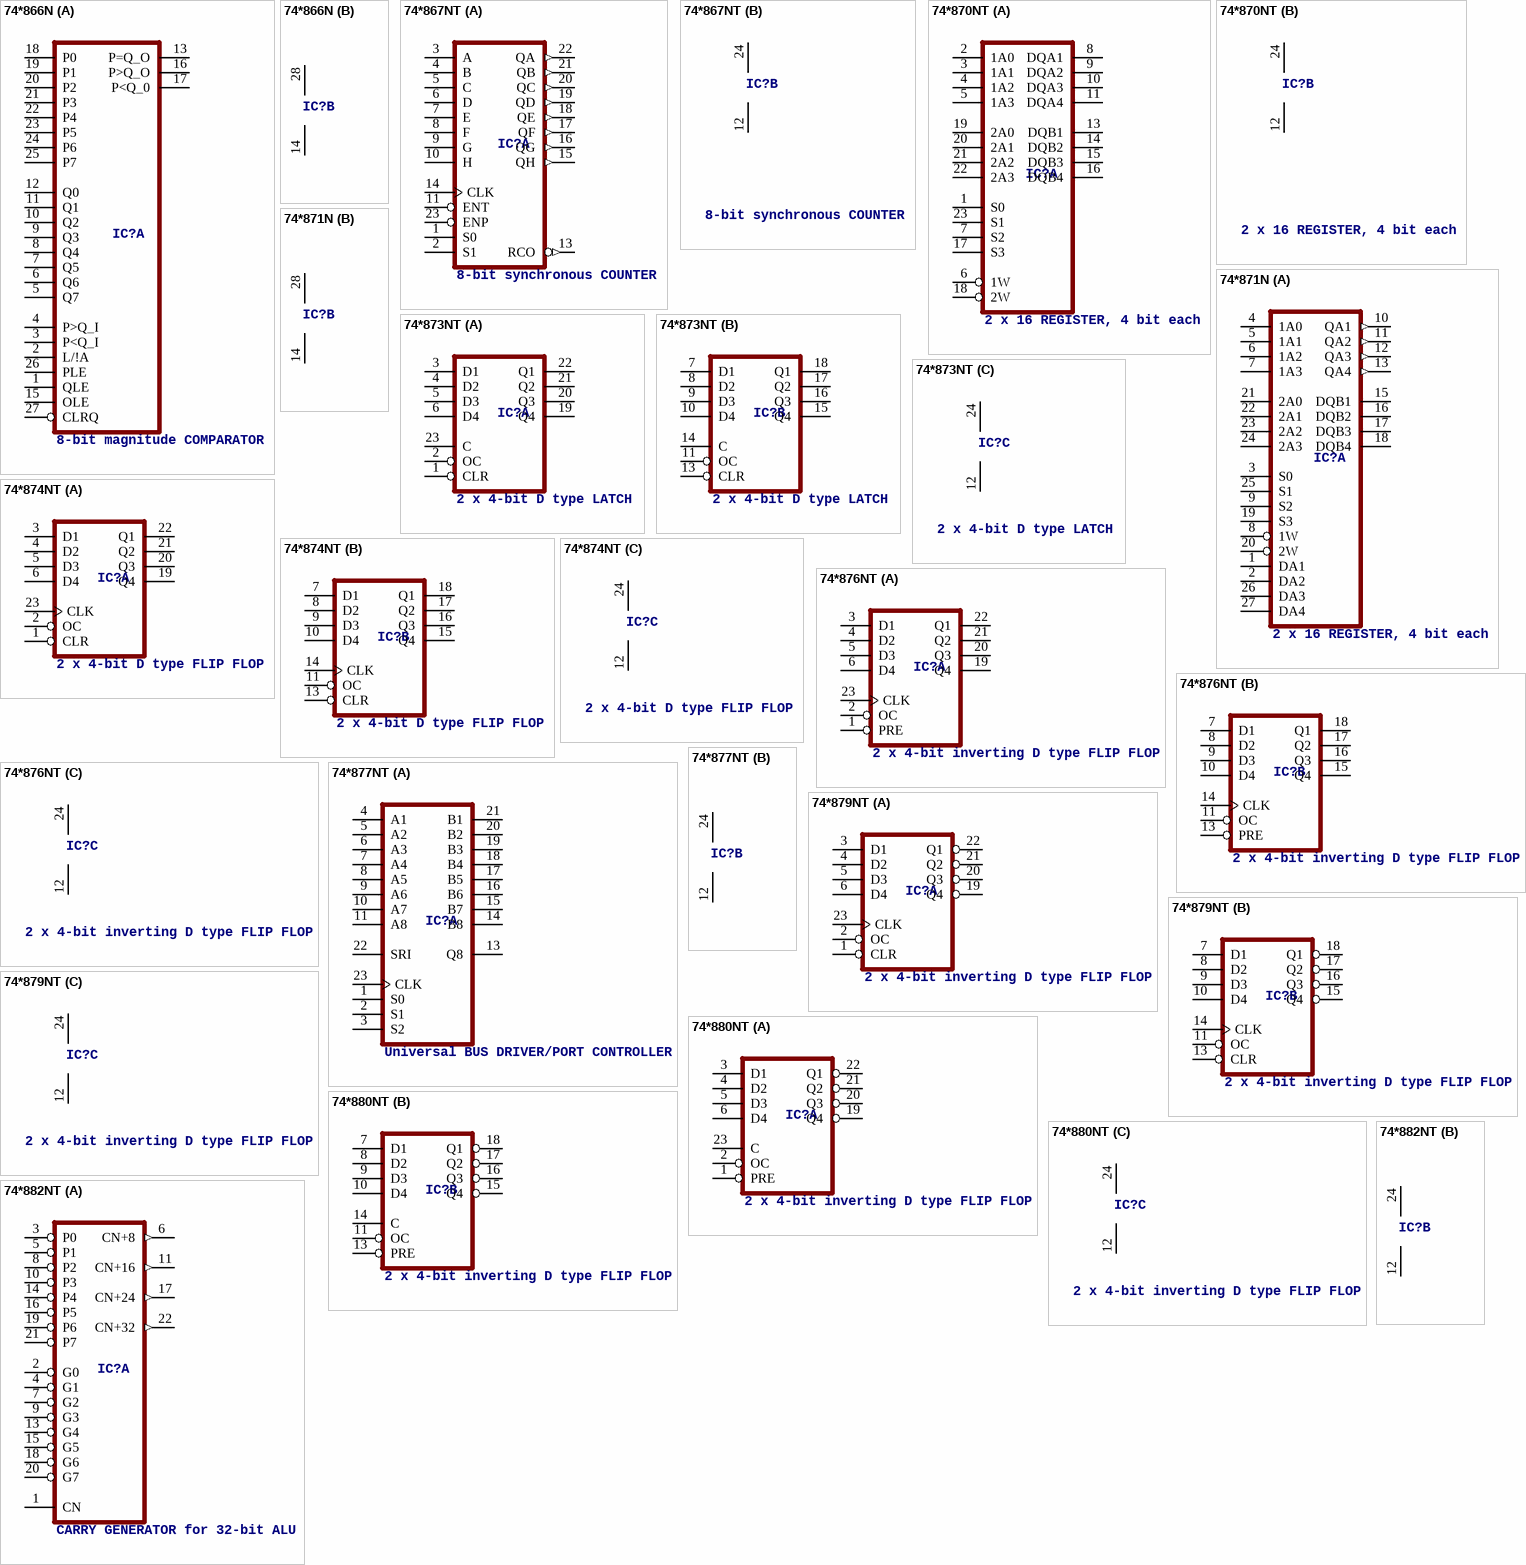
[diagram p53: symbols 74*866N to 74*882NT]

## 74*866N
designator IC?, comment 8-bit magnitude COMPARATOR
footprint DIL28-6
part A pins: 1 QLE, 2 L/!A, 3 P<Q_I, 4 P>Q_I, 5 Q7, 6 Q6, 7 Q5, 8 Q4, 9 Q3, 10 Q2, 11 Q1, 12 Q0, 13 P=Q_O (oc), 15 OLE, 16 P>Q_O (oc), 17 P<Q_0 (oc), 18 P0, 19 P1, 20 P2, 21 P3, 22 P4, 23 P5, 24 P6, 25 P7, 26 PLE, 27 CLRQ
part B pins: 14 GND (power), 28 VCC (power)

## 74*867NT
designator IC?, comment 8-bit synchronous COUNTER
footprint DIL24-6
part A pins: 1 S0, 2 S1, 3 A, 4 B, 5 C, 6 D, 7 E, 8 F, 9 G, 10 H, 11 ENT, 13 RCO (out), 14 CLK, 15 QH (out), 16 QG (out), 17 QF (out), 18 QE (out), 19 QD (out), 20 QC (out), 21 QB (out), 22 QA (out), 23 ENP
part B pins: 12 GND (power), 24 VCC (power)

## 74*870NT
designator IC?, comment 2 x 16 REGISTER, 4 bit each
footprint DIL24-3
part A pins: 1 S0, 2 1A0, 3 1A1, 4 1A2, 5 1A3, 6 1W, 7 S2, 8 DQA1, 9 DQA2, 10 DQA3, 11 DQA4, 13 DQB1, 14 DQB2, 15 DQB3, 16 DQB4, 17 S3, 18 2W, 19 2A0, 20 2A1, 21 2A2, 22 2A3, 23 S1
part B pins: 12 GND (power), 24 VCC (power)

## 74*871N
designator IC?, comment 2 x 16 REGISTER, 4 bit each
footprint DIL28-3
part A pins: 1 DA1, 2 DA2, 3 S0, 4 1A0, 5 1A1, 6 1A2, 7 1A3, 8 1W, 9 S2, 10 QA1 (out), 11 QA2 (out), 12 QA3 (out), 13 QA4 (out), 15 DQB1, 16 DQB2, 17 DQB3, 18 DQB4, 19 S3, 20 2W, 21 2A0, 22 2A1, 23 2A2, 24 2A3, 25 S1, 26 DA3, 27 DA4
part B pins: 14 GND (power), 28 VCC (power)

## 74*873NT
designator IC?, comment 2 x 4-bit D type LATCH
footprint DIL24-6
part A pins: 1 CLR, 2 OC, 3 D1, 4 D2, 5 D3, 6 D4, 19 Q4 (hiz), 20 Q3 (hiz), 21 Q2 (hiz), 22 Q1 (hiz), 23 C
part B pins: 7 D1, 8 D2, 9 D3, 10 D4, 11 OC, 13 CLR, 14 C, 15 Q4 (hiz), 16 Q3 (hiz), 17 Q2 (hiz), 18 Q1 (hiz)
part C pins: 12 GND (power), 24 VCC (power)

## 74*874NT
designator IC?, comment 2 x 4-bit D type FLIP FLOP
footprint DIL24-6
part A pins: 1 CLR, 2 OC, 3 D1, 4 D2, 5 D3, 6 D4, 19 Q4 (hiz), 20 Q3 (hiz), 21 Q2 (hiz), 22 Q1 (hiz), 23 CLK
part B pins: 7 D1, 8 D2, 9 D3, 10 D4, 11 OC, 13 CLR, 14 CLK, 15 Q4 (hiz), 16 Q3 (hiz), 17 Q2 (hiz), 18 Q1 (hiz)
part C pins: 12 GND (power), 24 VCC (power)

## 74*876NT
designator IC?, comment 2 x 4-bit inverting D type FLIP FLOP
footprint DIL24-6
part A pins: 1 PRE, 2 OC, 3 D1, 4 D2, 5 D3, 6 D4, 19 Q4 (hiz), 20 Q3 (hiz), 21 Q2 (hiz), 22 Q1 (hiz), 23 CLK
part B pins: 7 D1, 8 D2, 9 D3, 10 D4, 11 OC, 13 PRE, 14 CLK, 15 Q4 (hiz), 16 Q3 (hiz), 17 Q2 (hiz), 18 Q1 (hiz)
part C pins: 12 GND (power), 24 VCC (power)

## 74*877NT
designator IC?, comment Universal BUS DRIVER/PORT CONTROLLER
footprint DIL24-6
part A pins: 1 S0, 2 S1, 3 S2, 4 A1, 5 A2, 6 A3, 7 A4, 8 A5, 9 A6, 10 A7, 11 A8, 13 Q8 (hiz), 14 B8, 15 B7, 16 B6, 17 B5, 18 B4, 19 B3, 20 B2, 21 B1, 22 SRI, 23 CLK
part B pins: 12 GND (power), 24 VCC (power)

## 74*879NT
designator IC?, comment 2 x 4-bit inverting D type FLIP FLOP
footprint DIL24-6
part A pins: 1 CLR, 2 OC, 3 D1, 4 D2, 5 D3, 6 D4, 19 Q4 (hiz), 20 Q3 (hiz), 21 Q2 (hiz), 22 Q1 (hiz), 23 CLK
part B pins: 7 D1, 8 D2, 9 D3, 10 D4, 11 OC, 13 CLR, 14 CLK, 15 Q4 (hiz), 16 Q3 (hiz), 17 Q2 (hiz), 18 Q1 (hiz)
part C pins: 12 GND (power), 24 VCC (power)

## 74*880NT
designator IC?, comment 2 x 4-bit inverting D type FLIP FLOP
footprint DIL24-6
part A pins: 1 PRE, 2 OC, 3 D1, 4 D2, 5 D3, 6 D4, 19 Q4 (hiz), 20 Q3 (hiz), 21 Q2 (hiz), 22 Q1 (hiz), 23 C
part B pins: 7 D1, 8 D2, 9 D3, 10 D4, 11 OC, 13 PRE, 14 C, 15 Q4 (hiz), 16 Q3 (hiz), 17 Q2 (hiz), 18 Q1 (hiz)
part C pins: 12 GND (power), 24 VCC (power)

## 74*882NT
designator IC?, comment CARRY GENERATOR for 32-bit ALU
footprint DIL24-6
part A pins: 1 CN, 2 G0, 3 P0, 4 G1, 5 P1, 6 CN+8 (out), 7 G2, 8 P2, 9 G3, 10 P3, 11 CN+16 (out), 13 G4, 14 P4, 15 G5, 16 P5, 17 CN+24 (out), 18 G6, 19 P6, 20 G7, 21 P7, 22 CN+32 (out)
part B pins: 12 GND (power), 24 VCC (power)

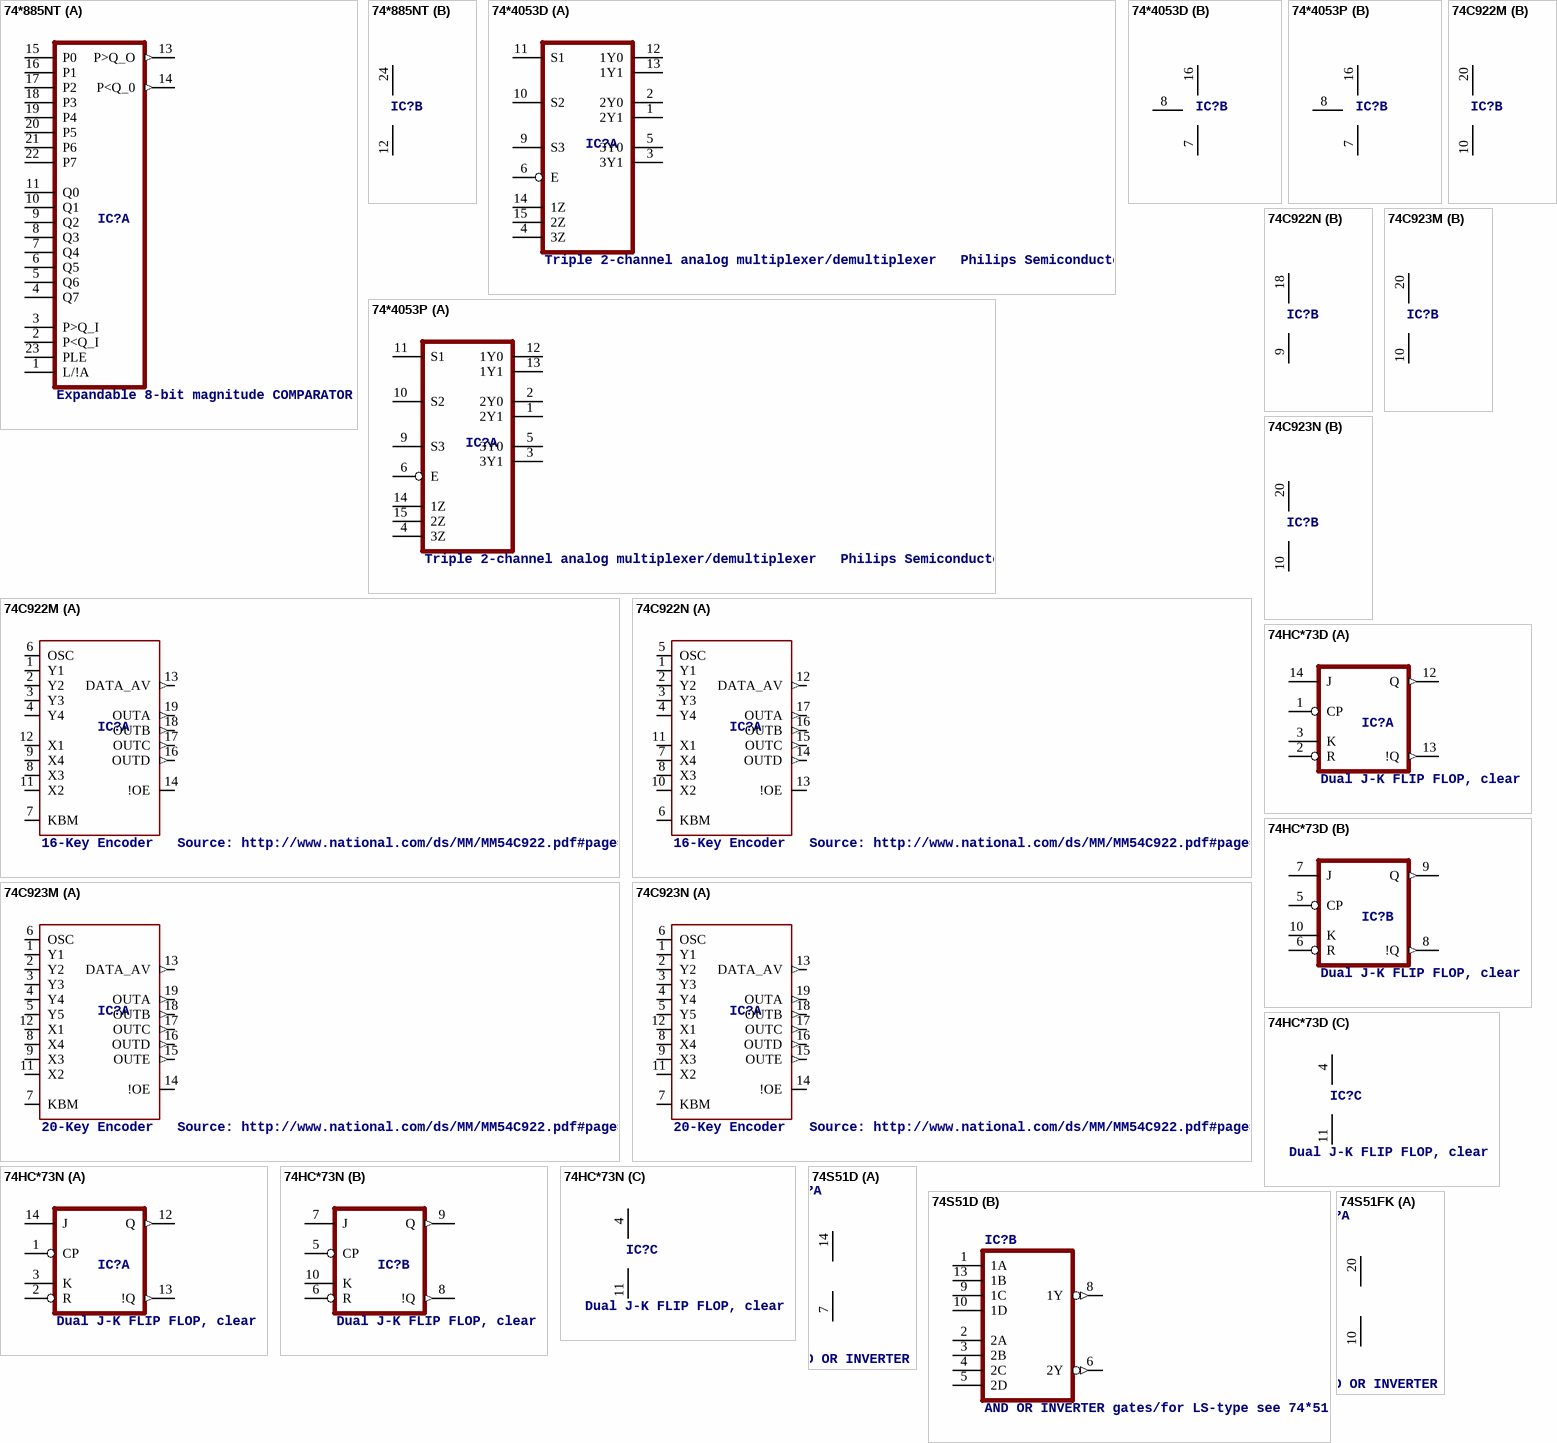
[diagram p54: symbols 74*885NT to 74S51FK]

## 74*885NT
designator IC?, comment Expandable 8-bit magnitude COMPARATOR
footprint DIL24-6
part A pins: 1 L/!A, 2 P<Q_I, 3 P>Q_I, 4 Q7, 5 Q6, 6 Q5, 7 Q4, 8 Q3, 9 Q2, 10 Q1, 11 Q0, 13 P>Q_O (out), 14 P<Q_0 (out), 15 P0, 16 P1, 17 P2, 18 P3, 19 P4, 20 P5, 21 P6, 22 P7, 23 PLE
part B pins: 12 GND (power), 24 VCC (power)

## 74*4053D
designator IC?, comment Triple 2-channel analog multiplexer/demultiplexer   Philips Semiconductor
footprint SO16
part A pins: 1 2Y1, 2 2Y0, 3 3Y1, 4 3Z, 5 3Y0, 6 E, 9 S3, 10 S2, 11 S1, 12 1Y0, 13 1Y1, 14 1Z, 15 2Z
part B pins: 7 VEE (power), 8 GND (power), 16 VCC (power)

## 74*4053P
designator IC?, comment Triple 2-channel analog multiplexer/demultiplexer   Philips Semiconductor
footprint DIL16
part A pins: 1 2Y1, 2 2Y0, 3 3Y1, 4 3Z, 5 3Y0, 6 E, 9 S3, 10 S2, 11 S1, 12 1Y0, 13 1Y1, 14 1Z, 15 2Z
part B pins: 7 VEE (power), 8 GND (power), 16 VCC (power)

## 74C922M
designator IC?, comment 16-Key Encoder   Source: http://www.national.com/ds/MM/MM54C922.pdf#page=1
footprint SO20W
part A pins: 1 Y1, 2 Y2, 3 Y3, 4 Y4, 6 OSC, 7 KBM, 8 X3, 9 X4, 11 X2, 12 X1, 13 DATA_AV (out), 14 !OE, 16 OUTD (out), 17 OUTC (out), 18 OUTB (out), 19 OUTA (out)
part B pins: 10 GND (power), 20 VCC (power)

## 74C922N
designator IC?, comment 16-Key Encoder   Source: http://www.national.com/ds/MM/MM54C922.pdf#page=1
footprint DIL18
part A pins: 1 Y1, 2 Y2, 3 Y3, 4 Y4, 5 OSC, 6 KBM, 7 X4, 8 X3, 10 X2, 11 X1, 12 DATA_AV (out), 13 !OE, 14 OUTD (out), 15 OUTC (out), 16 OUTB (out), 17 OUTA (out)
part B pins: 9 GND (power), 18 VCC (power)

## 74C923M
designator IC?, comment 20-Key Encoder   Source: http://www.national.com/ds/MM/MM54C922.pdf#page=1
footprint SO20W
part A pins: 1 Y1, 2 Y2, 3 Y3, 4 Y4, 5 Y5, 6 OSC, 7 KBM, 8 X4, 9 X3, 11 X2, 12 X1, 13 DATA_AV (out), 14 !OE, 15 OUTE (out), 16 OUTD (out), 17 OUTC (out), 18 OUTB (out), 19 OUTA (out)
part B pins: 10 GND (power), 20 VCC (power)

## 74C923N
designator IC?, comment 20-Key Encoder   Source: http://www.national.com/ds/MM/MM54C922.pdf#page=1
footprint DIL20
part A pins: 1 Y1, 2 Y2, 3 Y3, 4 Y4, 5 Y5, 6 OSC, 7 KBM, 8 X4, 9 X3, 11 X2, 12 X1, 13 DATA_AV (out), 14 !OE, 15 OUTE (out), 16 OUTD (out), 17 OUTC (out), 18 OUTB (out), 19 OUTA (out)
part B pins: 10 GND (power), 20 VCC (power)

## 74HC*73D
designator IC?, comment Dual J-K FLIP FLOP, clear
footprint SO14
part A pins: 1 CP, 2 R, 3 K, 12 Q (out), 13 !Q (out), 14 J
part B pins: 5 CP, 6 R, 7 J, 8 !Q (out), 9 Q (out), 10 K
part C pins: 4 VCC (power), 11 GND (power)

## 74HC*73N
designator IC?, comment Dual J-K FLIP FLOP, clear
footprint DIL14
part A pins: 1 CP, 2 R, 3 K, 12 Q (out), 13 !Q (out), 14 J
part B pins: 5 CP, 6 R, 7 J, 8 !Q (out), 9 Q (out), 10 K
part C pins: 4 VCC (power), 11 GND (power)

## 74S51D
designator IC?, comment AND OR INVERTER gates/for LS-type see 74*51
footprint SO14
part A pins: 7 GND (power), 14 VCC (power)
part B pins: 1 1A, 2 2A, 3 2B, 4 2C, 5 2D, 6 2Y (out), 8 1Y (out), 9 1C, 10 1D, 13 1B

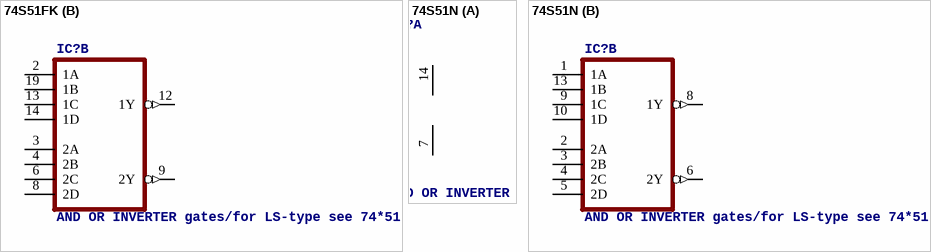
[diagram p55: symbols 74S51FK to 74S51N]

## 74S51FK
designator IC?, comment AND OR INVERTER gates/for LS-type see 74*51
footprint LCC20
part A pins: 10 GND (power), 20 VCC (power)
part B pins: 2 1A, 3 2A, 4 2B, 6 2C, 8 2D, 9 2Y (out), 12 1Y (out), 13 1C, 14 1D, 19 1B

## 74S51N
designator IC?, comment AND OR INVERTER gates/for LS-type see 74*51
footprint DIL14
part A pins: 7 GND (power), 14 VCC (power)
part B pins: 1 1A, 2 2A, 3 2B, 4 2C, 5 2D, 6 2Y (out), 8 1Y (out), 9 1C, 10 1D, 13 1B